# EAGLE library part LIS2HH12TR (library Sensor)
ACCELEROMETER 2-8G I2C/SPI 12LGA Manufacturer's datasheet <https://www.st.com/content/ccc/resource/technical/document/datasheet/c9/16/f2/79/ca/31/47/89/DM00096789.pdf/files/DM00096789.pdf/jcr:content/translations/en.DM00096789.pdf>
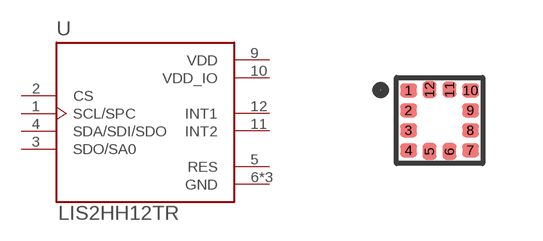
[diagram p29: symbol with the pads of LGA-12; footprint LGA-12]

Designator prefix U

## LIS2HH12TR (CREATED_BY: PCBLayout.com; DIGIKEY_PN: 497-15069-2-ND; MANUFACTURER: STMicroelectronics; MPN: LIS2HH12TR; PACKAGE: LGA-12)  [LGA-12]
1  SCL/SPC  in
2  CS  in
3  SDO/SA0  out
4  SDA/SDI/SDO
5  RES  pwr
6  GND  pwr
7  GND  pwr
8  GND  pwr
9  VDD  pwr
10  VDD_IO  pwr
11  INT2  out
12  INT1  out

## Footprint LGA-12 (pad centres in mm)
smd 0.42 x 0.35: 1 -0.775,0.75; 2 -0.775,0.25; 3 -0.775,-0.25; 4 -0.775,-0.75; 7 0.775,-0.75; 8 0.775,-0.25; 9 0.775,0.25; 10 0.775,0.75
smd 0.35 x 0.42: 5 -0.25,-0.775; 6 0.25,-0.775; 12 -0.25,0.775
smd 0.35 x 0.39: 11 0.25,0.775